# EAGLE library part LTC2067HMS8#PBF (library LTC2067HMS8#PBF)
Operational Amplifiers - Op Amps 10uA Supply,LowIBIAS ZeroDrift Dual OpAmp Source: Datasheet <https://www.analog.com/media/en/technical-documentation/data-sheets/LTC2066-2067.pdf>
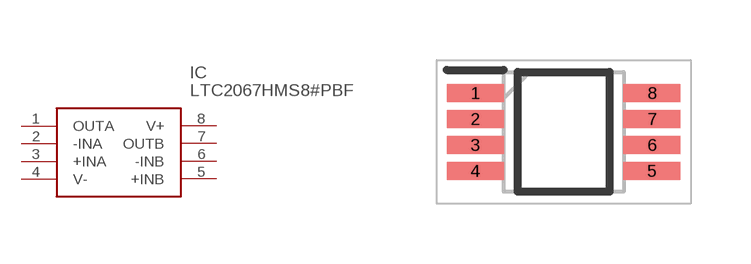
[diagram p0: symbol with the pads of SOP65P490X110-8N; footprint SOP65P490X110-8N]

Designator prefix IC

## LTC2067HMS8#PBF (Arrow_Part_Number: LTC2067HMS8#PBF; Arrow_Price-Stock: https://www.arrow.com/en/products/ltc2067hms8pbf/analog-devices; Description: Operational Amplifiers - Op Amps 10uA Supply,LowIBIAS ZeroDrift Dual OpAmp; Height: 1.1mm; Manufacturer_Name: Analog Devices; Manufacturer_Part_Number: LTC2067HMS8#PBF; Mouser_Part_Number: 584-LTC2067HMS8#PBF; Mouser_Price-Stock: https://www.mouser.co.uk/ProductDetail/Analog-Devices/LTC2067HMS8PBF?qs=w%2Fv1CP2dgqrxyuzCOwIzUQ%3D%3D)  [SOP65P490X110-8N]
1  OUTA
2  -INA
3  +INA
4  V-
5  +INB
6  -INB
7  OUTB
8  V+

## Footprint SOP65P490X110-8N (pad centres in mm)
MSOP-2
smd 1.425 x 0.45: 1 -2.212,0.975; 2 -2.212,0.325; 3 -2.212,-0.325; 4 -2.212,-0.975; 5 2.212,-0.975; 6 2.212,-0.325; 7 2.212,0.325; 8 2.212,0.975